# Altium integrated library Pressure_Sensors.IntLib: 2 symbols
Pins are listed as number, name and electrical type; pins without a type are passive.

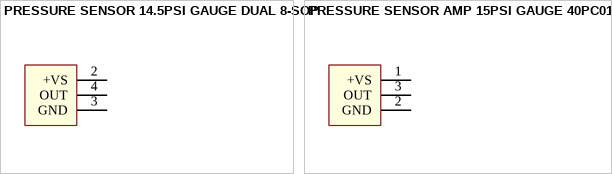
[diagram p0: symbols PRESSURE SENSOR 14.5PSI GAUGE DUAL 8-SOP to PRESSURE SENSOR AMP 15PSI GAUGE 40PC015G2A]

## PRESSURE SENSOR 14.5PSI GAUGE DUAL 8-SOP
designator U?, comment MPXV5100DP
Pressure Sensor 14.5PSI (100kPa) Differential Male - 0.13" (3.3mm) Tube, Dual 0.2 V ~ 4.7 V 8-BSOP (0.475", 12.06mm Width) Dual Ports, Same Side; Manufacturer 1: NXP USA Inc.; Part Number 1: MPXV5100DP
footprint 98ASA99255D (SOT, 8-Leads, Body 12.07x12.07mm, Pitch 1.27mm, IPC Medium Density)
pins: 1 DNC hidden, 2 +VS, 3 GND, 4 OUT, 5 DNC hidden, 6 DNC hidden, 7 DNC hidden, 8 DNC hidden

## PRESSURE SENSOR AMP 15PSI GAUGE 40PC015G2A
designator U?, comment 40PC015G2A
Pressure Sensor 15PSI (103.42kPa) Vented Gauge Male - 0.18" (4.57mm) Tube 0.5 V ~ 4.5 V 6-DIP Module; Manufacturer 1: Honeywell Sensing and Productivity Solutions; Part Number 1: 40PC015G2A
footprint 40PC015G2A (HONEYWELL PRESSURE SENSOR)
pins: 1 +VS, 2 GND, 3 OUT, 4 NIC hidden, 5 NIC hidden, 6 NIC hidden